# Altium integrated library Custom_Libraries.IntLib: 27 symbols
Pins are listed as number, name and electrical type; pins without a type are passive.

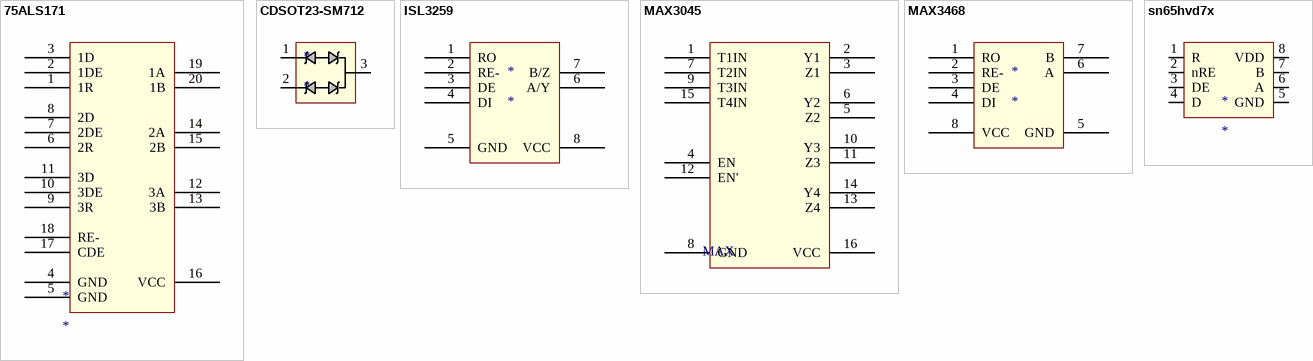
[diagram p0: symbols 75ALS171 to sn65hvd7x]

## 75ALS171
designator *
footprint 75ALS171 (SOIC, 20-Leads, Body 12.80x7.50mm, Pitch 1.27mm, IPC Medium Density)
pins: 1 1R, 2 1DE, 3 1D, 4 GND, 5 GND, 6 2R, 7 2DE, 8 2D, 9 3R, 10 3DE, 11 3D, 12 3A, 13 3B, 14 2A, 15 2B, 16 VCC, 17 CDE, 18 RE-, 19 1A, 20 1B

## CDSOT23-SM712
designator *
footprint SOT190P230X117-3N (SOT223, 3-Leads, Body 2.90x2.30mm (avg), Pitch 1.90mm, IPC Medium Density)
pins: 1, 2, 3

## ISL3259
designator *
footprint ILS3259 (SOIC, 8-Leads, Body 4.90x3.90mm, Pitch 1.27mm, IPC Low Density)
pins: 1 RO, 2 RE-, 3 DE, 4 DI, 5 GND, 6 A/Y, 7 B/Z, 8 VCC

## MAX3045
designator MAX, comment MAX  (value not drawn)
footprint MAX3045B
pins: 1 T1IN, 2 Y1, 3 Z1, 4 EN, 5 Z2, 6 Y2, 7 T2IN, 8 GND, 9 T3IN, 10 Y3, 11 Z3, 12 EN', 13 Z4, 14 Y4, 15 T4IN, 16 VCC

## MAX3468
designator *
footprint MAX3468 (SOIC, 8-Leads, Body 4.90x3.90mm, Pitch 1.27mm, IPC Low Density)
pins: 1 RO, 2 RE-, 3 DE, 4 DI, 5 GND, 6 A, 7 B, 8 VCC

## sn65hvd7x
designator *
footprint SOP127P600-8N
pins: 1 R, 2 nRE, 3 DE, 4 D, 5 GND, 6 A, 7 B, 8 VDD


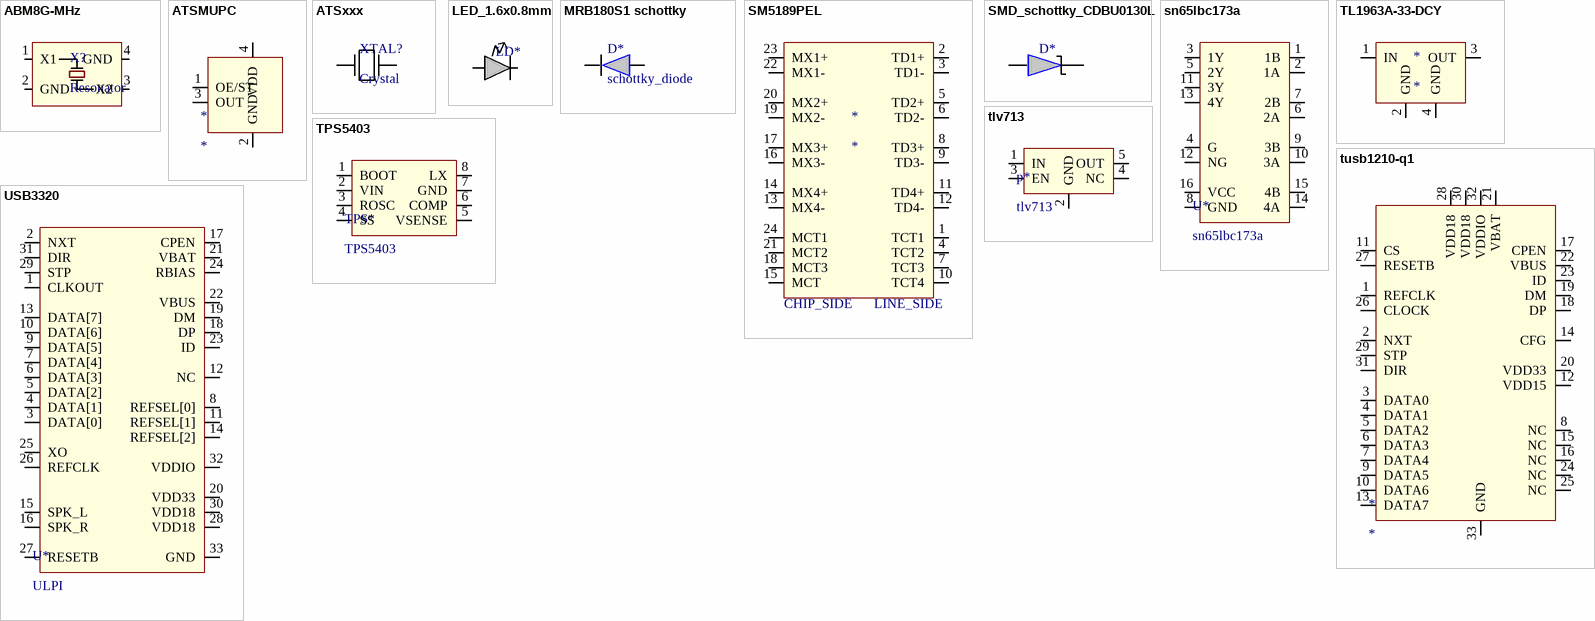
[diagram p1: symbols ABM8G-MHz to USB3320]

## ABM8G-MHz
designator X?, comment Resonator
footprint ABM8G (resonator)
footprint SOJ550P380X250-4M (SOJ, 4-Leads, Body 8.00x3.75mm, Pitch 5.50mm, IPC Low Density)
pins: 1 X1, 2 GND, 3 X2, 4 GND

## ATSMUPC
designator *
footprint DFN220P320X80-4N (DFN, 4-Leads, Body 2.50x3.20mm, Pitch 2.20mm, IPC Medium Density)
pins: 1 OE/ST (power), 2 GND (power), 3 OUT (power), 4 VDD (power)

## ATSxxx
designator XTAL?, comment Crystal
footprint ATSxxx
pins: 1, 2

## LED_1.6x0.8mm
designator LD*  (value not drawn)
footprint LED_1.6x0.8
pins: 1, 2

## MRB180S1 schottky
designator D*, comment schottky_diode
footprint MBR180S1 (SODFL, 2-Leads, Body 1.55x3.70mm, IPC Medium Density)
pins: 1 Cathode, 2 Anode

## SM5189PEL
designator *
footprint SM51589PEL (SOP, 24-Leads, Body 17.55x12.10mm, Pitch 1.27mm, IPC Medium Density)
pins: 1 TCT1, 2 TD1+, 3 TD1-, 4 TCT2, 5 TD2+, 6 TD2-, 7 TCT3, 8 TD3+, 9 TD3-, 10 TCT4, 11 TD4+, 12 TD4-, 13 MX4-, 14 MX4+, 15 MCT, 16 MX3-, 17 MX3+, 18 MCT3, 19 MX2-, 20 MX2+, 21 MCT2, 22 MX1-, 23 MX1+, 24 MCT1
text: CHIP_SIDE; LINE_SIDE

## SMD_schottky_CDBU0130L
designator D*, comment schottky Diode  (value not drawn)
footprint DIOM1709X08N (Molded Diode, 2-Leads, Body 1.70x0.90mm, IPC Medium Density)
pins: 1 Cathode, 2 anode

## sn65lbc173a
designator U*
footprint SOIC127P600-8N
pins: 1 1B, 2 1A, 3 1Y, 4 G, 5 2Y, 6 2A, 7 2B, 8 GND, 9 3B, 10 3A, 11 3Y, 12 NG, 13 4Y, 14 4A, 15 4B, 16 VCC

## TL1963A-33-DCY
designator *
footprint DCY(R-PDSO-G4) (SOT223, 4-Leads, Body 6.50x7.00mm (avg), Pitch 2.30mm, IPC Medium Density)
pins: 1 IN, 2 GND, 3 OUT, 4 GND

## tlv713
designator p*
footprint SOT95P280X145-5N (SOT23, 5-Leads, Body 2.90x2.80mm, Pitch 0.95mm, IPC Medium Density)
pins: 1 IN (power), 2 GND (power), 3 EN, 4 NC, 5 OUT (power)

## TPS5403
designator TPS*
switching power-3.3V
footprint SOIC127P600X175-8M (SOIC, 8-Leads, Body 4.90x3.90mm, Pitch 1.27mm, IPC Low Density)
pins: 1 BOOT, 2 VIN, 3 ROSC, 4 SS, 5 VSENSE, 6 COMP, 7 GND, 8 LX

## tusb1210-q1
designator *
footprint QFN50P500X500X100_HS-33N (QFN, 32-Leads, Body 5.00x5.00mm, Pitch 0.50mm, Thermal Pad 3.40x3.40mm, IPC Medium Density)
pins: 1 REFCLK (power), 2 NXT (power), 3 DATA0 (power), 4 DATA1 (power), 5 DATA2 (power), 6 DATA3 (power), 7 DATA4 (power), 8 NC (power), 9 DATA5 (power), 10 DATA6 (power), 11 CS (power), 12 VDD15 (power), 13 DATA7 (power), 14 CFG (power), 15 NC (power), 16 NC (power), 17 CPEN (power), 18 DP (power), 19 DM (power), 20 VDD33 (power), 21 VBAT (power), 22 VBUS (power), 23 ID (power), 24 NC (power), 25 NC (power), 26 CLOCK (power), 27 RESETB (power), 28 VDD18 (power), 29 STP (power), 30 VDD18 (power), 31 DIR (power), 32 VDDIO (power), 33 GND (power)

## USB3320
designator U*, comment ULPI
USB3320C-EZK
footprint QFN127P600-8N
pins: 1 CLKOUT, 2 NXT, 3 DATA[0], 4 DATA[1], 5 DATA[2], 6 DATA[3], 7 DATA[4], 8 REFSEL[0], 9 DATA[5], 10 DATA[6], 11 REFSEL[1], 12 NC, 13 DATA[7], 14 REFSEL[2], 15 SPK_L, 16 SPK_R, 17 CPEN, 18 DP, 19 DM, 20 VDD33, 21 VBAT, 22 VBUS, 23 ID, 24 RBIAS, 25 XO, 26 REFCLK, 27 RESETB, 28 VDD18, 29 STP, 30 VDD18, 31 DIR, 32 VDDIO, 33 GND (power)


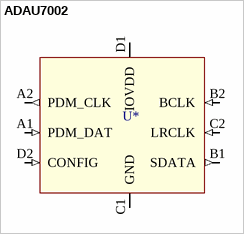
[diagram p2: symbol ADAU7002]

## ADAU7002
designator U*  (value not drawn)
footprint ADAU7002_ (BGA, 8-Leads, Body 0.76x1.56mmx0.56mm, Pitch 0.40mm)
pins: A1 PDM_DAT (in), A2 PDM_CLK (out), B1 SDATA (out), B2 BCLK (in), C1 GND (power), C2 LRCLK (in), D1 IOVDD (power), D2 CONFIG (in)


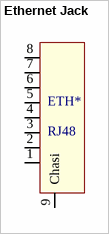
[diagram p3: symbol Ethernet Jack]

## Ethernet Jack
designator ETH*, comment RJ48
footprint TE modular Jack RJ45 (ethernet connector)
pins: 1, 2, 3, 4, 5, 6, 7, 8, 9 Chasi


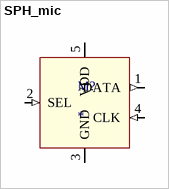
[diagram p4: symbol SPH_mic]

## SPH_mic
designator M?
footprint SPH1668LM4H
pins: 1 DATA (out), 2 SEL (in), 3 GND (power), 4 CLK (in), 5 VDD (power)


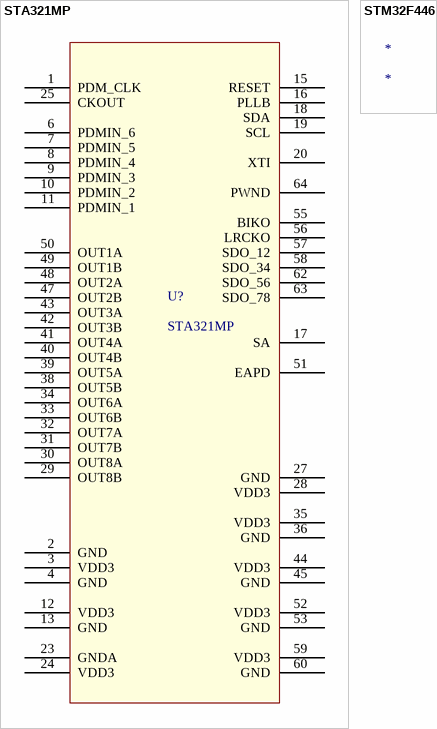
[diagram p5: symbols STA321MP to STM32F446]

## STA321MP
designator U?
footprint TQFP64_M (64-Pin Thin Quad Flat Pack 0.5 mm Pitch, IPC Low Density)
pins: 1 PDM_CLK, 2 GND, 3 VDD3, 4 GND, 6 PDMIN_6, 7 PDMIN_5, 8 PDMIN_4, 9 PDMIN_3, 10 PDMIN_2, 11 PDMIN_1, 12 VDD3, 13 GND, 15 RESET, 16 PLLB, 17 SA, 18 SDA, 19 SCL, 20 XTI, 23 GNDA, 24 VDD3, 25 CKOUT, 27 GND, 28 VDD3, 29 OUT8B, 30 OUT8A, 31 OUT7B, 32 OUT7A, 33 OUT6B, 34 OUT6A, 35 VDD3, 36 GND, 38 OUT5B, 39 OUT5A, 40 OUT4B, 41 OUT4A, 42 OUT3B, 43 OUT3A, 44 VDD3, 45 GND, 47 OUT2B, 48 OUT2A, 49 OUT1B, 50 OUT1A, 51 EAPD, 52 VDD3, 53 GND, 55 BIKO, 56 LRCKO, 57 SDO_12, 58 SDO_34, 59 VDD3, 60 GND, 62 SDO_56, 63 SDO_78, 64 PWND

## STM32F446
designator *


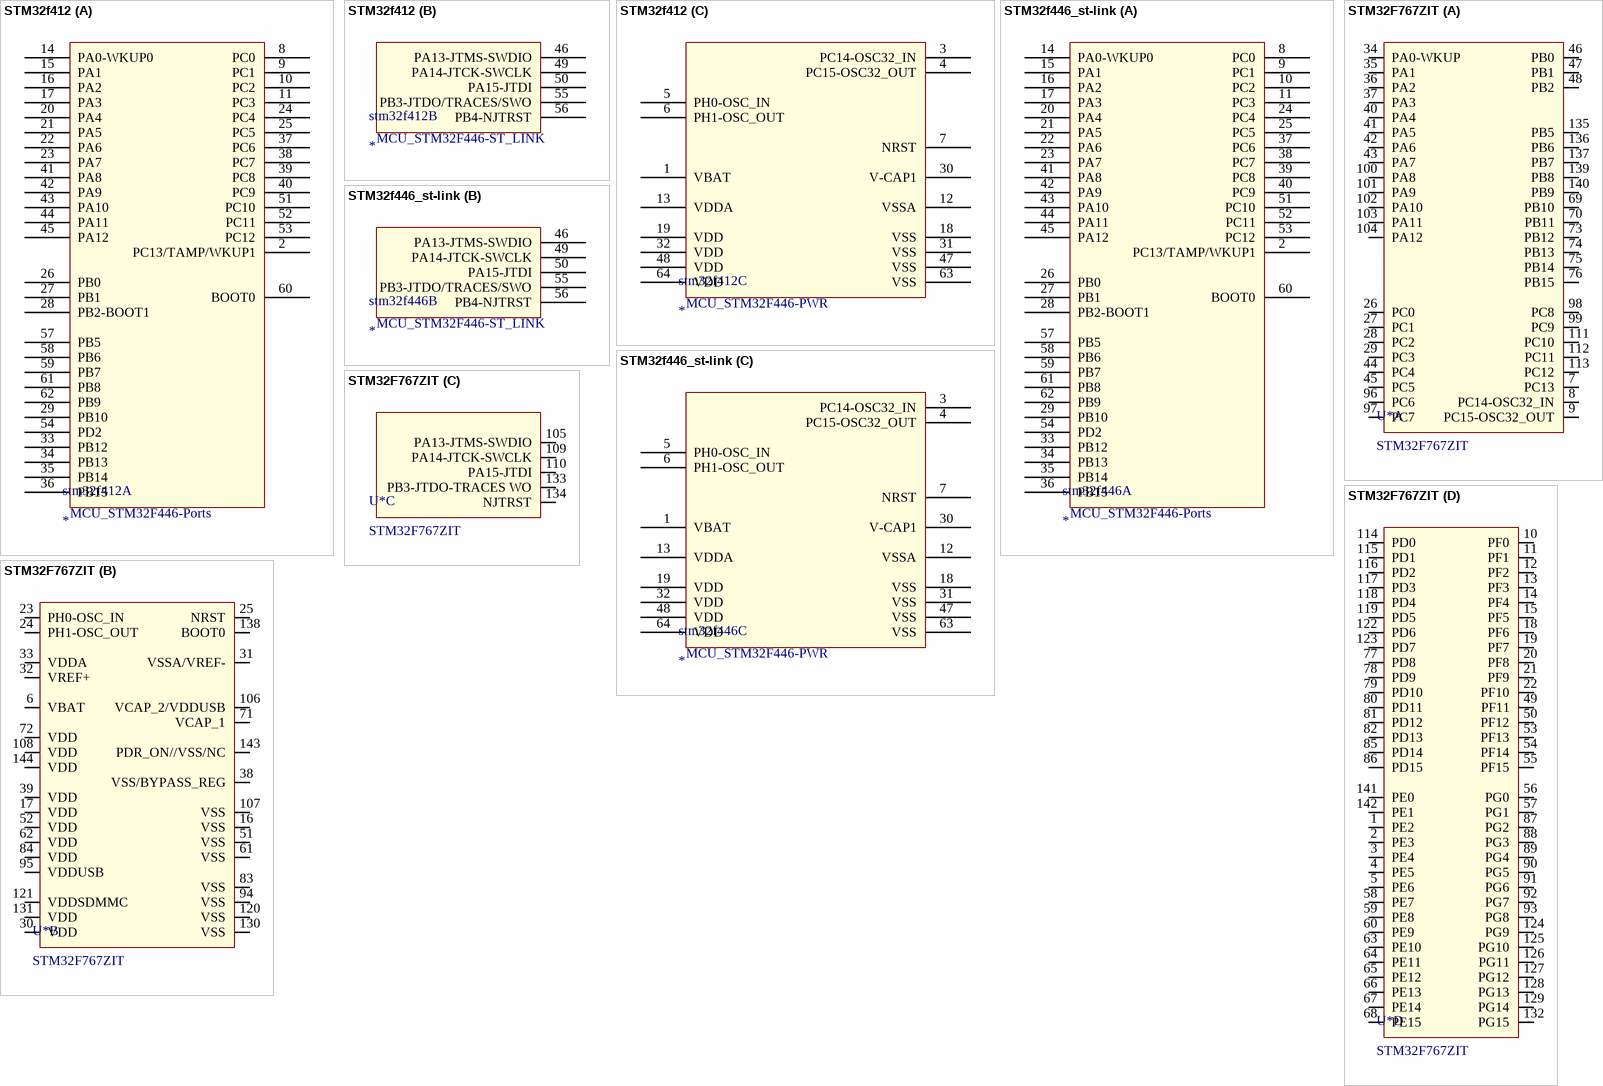
[diagram p6: symbols STM32f412 to STM32F767ZIT]

## STM32f412
designator stm32f412
footprint TQFP64_N (64-Pin Thin Quad Flat Pack 0.5 mm Pitch, IPC Medium Density)
footprint TQFP64_M (64-Pin Thin Quad Flat Pack 0.5 mm Pitch, IPC Low Density)
footprint TQFP64_L (64-Pin Thin Quad Flat Pack 0.5 mm Pitch, IPC High Density)
part A pins: 2 PC13/TAMP/WKUP1, 8 PC0, 9 PC1, 10 PC2, 11 PC3, 14 PA0-WKUP0, 15 PA1, 16 PA2, 17 PA3, 20 PA4, 21 PA5, 22 PA6, 23 PA7, 24 PC4, 25 PC5, 26 PB0, 27 PB1, 28 PB2-BOOT1, 29 PB10, 33 PB12, 34 PB13, 35 PB14, 36 PB15, 37 PC6, 38 PC7, 39 PC8, 40 PC9, 41 PA8, 42 PA9, 43 PA10, 44 PA11, 45 PA12, 51 PC10, 52 PC11, 53 PC12, 54 PD2, 57 PB5, 58 PB6, 59 PB7, 60 BOOT0, 61 PB8, 62 PB9
part B pins: 46 PA13-JTMS-SWDIO, 49 PA14-JTCK-SWCLK, 50 PA15-JTDI, 55 PB3-JTDO/TRACES/SWO, 56 PB4-NJTRST
part C pins: 1 VBAT, 3 PC14-OSC32_IN, 4 PC15-OSC32_OUT, 5 PH0-OSC_IN, 6 PH1-OSC_OUT, 7 NRST, 12 VSSA, 13 VDDA, 18 VSS, 19 VDD, 30 V-CAP1, 31 VSS, 32 VDD, 47 VSS, 48 VDD, 63 VSS, 64 VDD
part A text: MCU_STM32F446-Ports
part B text: MCU_STM32F446-ST_LINK
part C text: MCU_STM32F446-PWR

## STM32f446_st-link
designator stm32f446
footprint TQFP64_N (64-Pin Thin Quad Flat Pack 0.5 mm Pitch, IPC Medium Density)
footprint TQFP64_M (64-Pin Thin Quad Flat Pack 0.5 mm Pitch, IPC Low Density)
footprint TQFP64_L (64-Pin Thin Quad Flat Pack 0.5 mm Pitch, IPC High Density)
part A pins: 2 PC13/TAMP/WKUP1, 8 PC0, 9 PC1, 10 PC2, 11 PC3, 14 PA0-WKUP0, 15 PA1, 16 PA2, 17 PA3, 20 PA4, 21 PA5, 22 PA6, 23 PA7, 24 PC4, 25 PC5, 26 PB0, 27 PB1, 28 PB2-BOOT1, 29 PB10, 33 PB12, 34 PB13, 35 PB14, 36 PB15, 37 PC6, 38 PC7, 39 PC8, 40 PC9, 41 PA8, 42 PA9, 43 PA10, 44 PA11, 45 PA12, 51 PC10, 52 PC11, 53 PC12, 54 PD2, 57 PB5, 58 PB6, 59 PB7, 60 BOOT0, 61 PB8, 62 PB9
part B pins: 46 PA13-JTMS-SWDIO, 49 PA14-JTCK-SWCLK, 50 PA15-JTDI, 55 PB3-JTDO/TRACES/SWO, 56 PB4-NJTRST
part C pins: 1 VBAT, 3 PC14-OSC32_IN, 4 PC15-OSC32_OUT, 5 PH0-OSC_IN, 6 PH1-OSC_OUT, 7 NRST, 12 VSSA, 13 VDDA, 18 VSS, 19 VDD, 30 V-CAP1, 31 VSS, 32 VDD, 47 VSS, 48 VDD, 63 VSS, 64 VDD
part A text: MCU_STM32F446-Ports
part B text: MCU_STM32F446-ST_LINK
part C text: MCU_STM32F446-PWR

## STM32F767ZIT
designator U*
footprint TSQFP50P2200X2200X160-144N (TSQFP, 144-Leads, Body 20.00x20.00mm, Pitch 0.50mm, IPC Medium Density)
part A pins: 7 PC13 (power), 8 PC14-OSC32_IN (power), 9 PC15-OSC32_OUT (power), 26 PC0 (power), 27 PC1 (power), 28 PC2 (power), 29 PC3 (power), 34 PA0-WKUP (power), 35 PA1 (power), 36 PA2 (power), 37 PA3 (power), 40 PA4 (power), 41 PA5 (power), 42 PA6 (power), 43 PA7 (power), 44 PC4 (power), 45 PC5 (power), 46 PB0 (power), 47 PB1 (power), 48 PB2 (power), 69 PB10 (power), 70 PB11 (power), 73 PB12 (power), 74 PB13 (power), 75 PB14 (power), 76 PB15 (power), 96 PC6 (power), 97 PC7 (power), 98 PC8 (power), 99 PC9 (power), 100 PA8 (power), 101 PA9 (power), 102 PA10 (power), 103 PA11 (power), 104 PA12 (power), 111 PC10 (power), 112 PC11 (power), 113 PC12 (power), 135 PB5 (power), 136 PB6 (power), 137 PB7 (power), 139 PB8 (power), 140 PB9 (power)
part B pins: 6 VBAT (power), 16 VSS (power), 17 VDD (power), 23 PH0-OSC_IN (power), 24 PH1-OSC_OUT (power), 25 NRST (power), 30 VDD (power), 31 VSSA/VREF- (power), 32 VREF+ (power), 33 VDDA (power), 38 VSS/BYPASS_REG (power), 39 VDD (power), 51 VSS (power), 52 VDD (power), 61 VSS (power), 62 VDD (power), 71 VCAP_1 (power), 72 VDD (power), 83 VSS (power), 84 VDD (power), 94 VSS (power), 95 VDDUSB (power), 106 VCAP_2/VDDUSB (power), 107 VSS (power), 108 VDD (power), 120 VSS (power), 121 VDDSDMMC (power), 130 VSS (power), 131 VDD (power), 138 BOOT0 (power), 143 PDR_ON//VSS/NC (power), 144 VDD (power)
part C pins: 105 PA13-JTMS-SWDIO (power), 109 PA14-JTCK-SWCLK (power), 110 PA15-JTDI (power), 133 PB3-JTDO-TRACES WO (power), 134 NJTRST (power)
part D pins: 1 PE2 (power), 2 PE3 (power), 3 PE4 (power), 4 PE5 (power), 5 PE6 (power), 10 PF0 (power), 11 PF1 (power), 12 PF2 (power), 13 PF3 (power), 14 PF4 (power), 15 PF5 (power), 18 PF6 (power), 19 PF7 (power), 20 PF8 (power), 21 PF9 (power), 22 PF10 (power), 49 PF11 (power), 50 PF12 (power), 53 PF13 (power), 54 PF14 (power), 55 PF15 (power), 56 PG0 (power), 57 PG1 (power), 58 PE7 (power), 59 PE8 (power), 60 PE9 (power), 63 PE10 (power), 64 PE11 (power), 65 PE12 (power), 66 PE13 (power), 67 PE14 (power), 68 PE15 (power), 77 PD8 (power), 78 PD9 (power), 79 PD10 (power), 80 PD11 (power), 81 PD12 (power), 82 PD13 (power), 85 PD14 (power), 86 PD15 (power), 87 PG2 (power), 88 PG3 (power), 89 PG4 (power), 90 PG5 (power), 91 PG6 (power), 92 PG7 (power), 93 PG8 (power), 114 PD0 (power), 115 PD1 (power), 116 PD2 (power), 117 PD3 (power), 118 PD4 (power), 119 PD5 (power), 122 PD6 (power), 123 PD7 (power), 124 PG9 (power), 125 PG10 (power), 126 PG11 (power), 127 PG12 (power), 128 PG13 (power), 129 PG14 (power), 132 PG15 (power), 141 PE0 (power), 142 PE1 (power)